# EAGLE library part GSM_UC15 (library v1-cellphone)
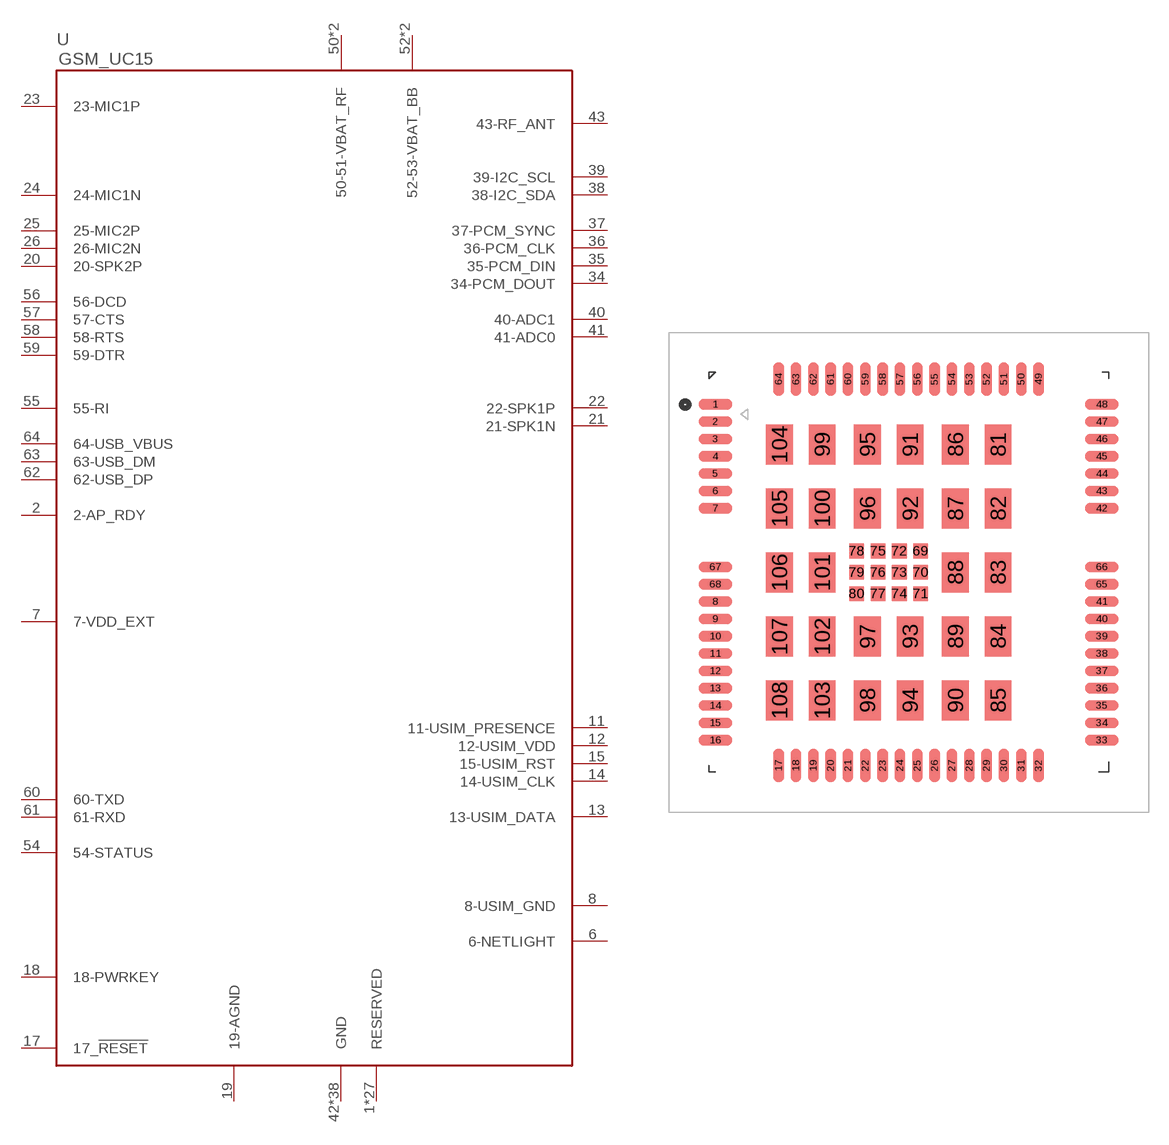
[diagram p7: symbol with the pads of GSM_UC15_WITHOUT_EXCLUSION; footprint GSM_UC15_WITHOUT_EXCLUSION]

Designator prefix U

## GSM_UC15  [GSM_UC15_WITHOUT_EXCLUSION]
1  RESERVED
2  2-AP_RDY
3  RESERVED
4  RESERVED
5  RESERVED
6  6-NETLIGHT
7  7-VDD_EXT
8  8-USIM_GND
9  RESERVED
10  RESERVED
11  11-USIM_PRESENCE
12  12-USIM_VDD
13  13-USIM_DATA
14  14-USIM_CLK
15  15-USIM_RST
16  RESERVED
17  17_!RESET
18  18-PWRKEY
19  19-AGND
20  20-SPK2P
21  21-SPK1N
22  22-SPK1P
23  23-MIC1P
24  24-MIC1N
25  25-MIC2P
26  26-MIC2N
27  RESERVED
28  RESERVED
29  RESERVED
30  RESERVED
31  RESERVED
32  RESERVED
33  RESERVED
34  34-PCM_DOUT
35  35-PCM_DIN
36  36-PCM_CLK
37  37-PCM_SYNC
38  38-I2C_SDA
39  39-I2C_SCL
40  40-ADC1
41  41-ADC0
42  GND
43  43-RF_ANT
44  GND
45  GND
46  GND
47  GND
48  GND
49  GND
50  50-51-VBAT_RF
51  50-51-VBAT_RF
52  52-53-VBAT_BB
53  52-53-VBAT_BB
54  54-STATUS
55  55-RI
56  56-DCD
57  57-CTS
58  58-RTS
59  59-DTR
60  60-TXD
61  61-RXD
62  62-USB_DP
63  63-USB_DM
64  64-USB_VBUS
65  GND
66  RESERVED
67  GND
68  GND
69  RESERVED
70  RESERVED
71  RESERVED
72  RESERVED
73  RESERVED
74  RESERVED
75  RESERVED
76  RESERVED
77  RESERVED
78  RESERVED
79  RESERVED
80  RESERVED
81  GND
82  GND
83  GND
84  GND
85  GND
86  GND
87  GND
88  GND
89  GND
90  GND
91  GND
92  GND
93  GND
94  GND
95  GND
96  GND
97  GND
98  GND
99  GND
100  GND
101  GND
102  GND
103  GND
104  GND
105  GND
106  GND
107  GND
108  GND

## Footprint GSM_UC15_WITHOUT_EXCLUSION (pad centres in mm)
smd 2.5 x 0.8: 1 -14.5,12.6; 2 -14.5,11.3; 3 -14.5,10; 4 -14.5,8.7; 5 -14.5,7.4; 6 -14.5,6.1; 7 -14.5,4.8; 8 -14.5,-2.2; 9 -14.5,-3.5; 10 -14.5,-4.8; 11 -14.5,-6.1; 12 -14.5,-7.4; 13 -14.5,-8.7; 14 -14.5,-10; 15 -14.5,-11.3; 16 -14.5,-12.6; 33 14.5,-12.6; 34 14.5,-11.3; 35 14.5,-10; 36 14.5,-8.7; 37 14.5,-7.4; 38 14.5,-6.1; 39 14.5,-4.8; 40 14.5,-3.5; 41 14.5,-2.2; 42 14.5,4.8; 43 14.5,6.1; 44 14.5,7.4; 45 14.5,8.7; 46 14.5,10; 47 14.5,11.3; 48 14.5,12.6; 65 14.5,-0.9; 66 14.5,0.4; 67 -14.5,0.4; 68 -14.5,-0.9
smd 0.8 x 2.5: 17 -9.75,-14.5; 18 -8.45,-14.5; 19 -7.15,-14.5; 20 -5.85,-14.5; 21 -4.55,-14.5; 22 -3.25,-14.5; 23 -1.95,-14.5; 24 -0.65,-14.5; 25 0.65,-14.5; 26 1.95,-14.5; 27 3.25,-14.5; 28 4.55,-14.5; 29 5.85,-14.5; 30 7.15,-14.5; 31 8.45,-14.5; 32 9.75,-14.5; 49 9.75,14.5; 50 8.45,14.5; 51 7.15,14.5; 52 5.85,14.5; 53 4.55,14.5; 54 3.25,14.5; 55 1.95,14.5; 56 0.65,14.5; 57 -0.65,14.5; 58 -1.95,14.5; 59 -3.25,14.5; 60 -4.55,14.5; 61 -5.85,14.5; 62 -7.15,14.5; 63 -8.45,14.5; 64 -9.75,14.5
smd 1.1 x 1.1: 69 0.9,1.6; 70 0.9,0; 71 0.9,-1.6; 72 -0.7,1.6; 73 -0.7,0; 74 -0.7,-1.6; 75 -2.3,1.6; 76 -2.3,0; 77 -2.3,-1.6; 78 -3.9,1.6; 79 -3.9,0; 80 -3.9,-1.6
smd 2 x 3: 81 6.7,9.6; 82 6.7,4.8; 83 6.7,0; 84 6.7,-4.8; 85 6.7,-9.6; 86 3.5,9.6; 87 3.5,4.8; 88 3.5,0; 89 3.5,-4.8; 90 3.5,-9.6; 91 0.1,9.6; 92 0.1,4.8; 93 0.1,-4.8; 94 0.1,-9.6; 95 -3.1,9.6; 96 -3.1,4.8; 97 -3.1,-4.8; 98 -3.1,-9.6; 99 -6.5,9.6; 100 -6.5,4.8; 101 -6.5,0; 102 -6.5,-4.8; 103 -6.5,-9.6; 104 -9.7,9.6; 105 -9.7,4.8; 106 -9.7,0; 107 -9.7,-4.8; 108 -9.7,-9.6